# Altium schematic symbol library Power.SchLib: 1 symbol
Pins are listed as number, name and electrical type; pins without a type are passive.

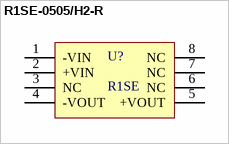
[diagram p0: symbol R1SE-0505/H2-R]

## R1SE-0505/H2-R
designator U?, comment R1SE
pins: 1 -VIN, 2 +VIN, 3 NC, 4 -VOUT, 5 +VOUT, 6 NC, 7 NC, 8 NC